# EAGLE library part ATSAML21E (library everykey)
Atmel SAML21 Cortex M0+, 32 pin variant
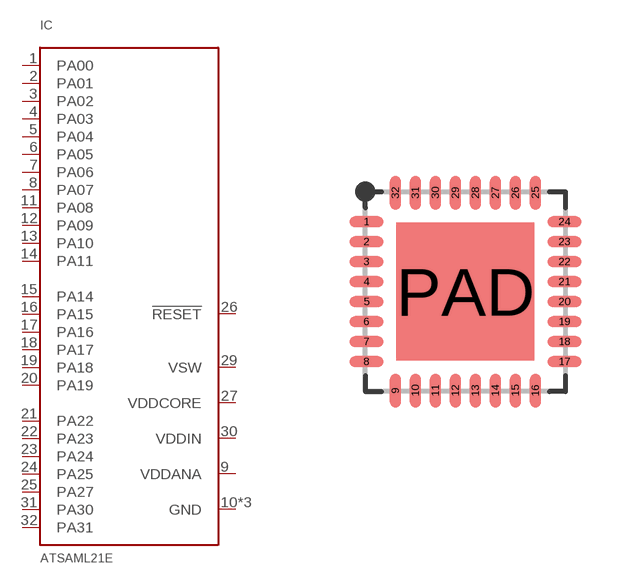
[diagram p87: symbol with the pads of QFN32-0.5-EP; footprint QFN32-0.5-EP]

Designator prefix IC

## ATSAML21E-MUT  [QFN32-0.5-EP]
1  PA00
2  PA01
3  PA02
4  PA03
5  PA04
6  PA05
7  PA06
8  PA07
9  VDDANA  pwr
10  GND  pwr
11  PA08
12  PA09
13  PA10
14  PA11
15  PA14
16  PA15
17  PA16
18  PA17
19  PA18
20  PA19
21  PA22
22  PA23
23  PA24
24  PA25
25  PA27
26  !RESET  in
27  VDDCORE  pwr
28  GND  pwr
29  VSW  pas
30  VDDIN  pwr
31  PA30
32  PA31
PAD  GND  pwr

## Footprint QFN32-0.5-EP (pad centres in mm)
QFN package, 32 pins, 0.5mm pitch, exposed pad
smd 0.85 x 0.28: 1 -2.475,1.75; 2 -2.475,1.25; 3 -2.475,0.75; 4 -2.475,0.25; 5 -2.475,-0.25; 6 -2.475,-0.75; 7 -2.475,-1.25; 8 -2.475,-1.75; 17 2.475,-1.75; 18 2.475,-1.25; 19 2.475,-0.75; 20 2.475,-0.25; 21 2.475,0.25; 22 2.475,0.75; 23 2.475,1.25; 24 2.475,1.75
smd 0.28 x 0.85: 9 -1.75,-2.475; 10 -1.25,-2.475; 11 -0.75,-2.475; 12 -0.25,-2.475; 13 0.25,-2.475; 14 0.75,-2.475; 15 1.25,-2.475; 16 1.75,-2.475; 25 1.75,2.475; 26 1.25,2.475; 27 0.75,2.475; 28 0.25,2.475; 29 -0.25,2.475; 30 -0.75,2.475; 31 -1.25,2.475; 32 -1.75,2.475
smd 3.45 x 3.45: PAD 0,0